# Altium schematic symbol library TACL105K016XTA.SchLib: 1 symbol
Pins are listed as number, name and electrical type; pins without a type are passive.

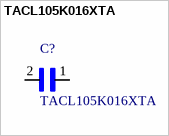
[diagram p0: symbol TACL105K016XTA]

## TACL105K016XTA
designator C?
Cap Tant Solid 1uF 16V L CASE 10% _1.6 X 0.85 X 0.85mm_ SMD 1608-10 7.5 Ohm 125Â°C Plastic T/R; MF: AVX; Digi-Key_Purchase_URL: https://www.digikey.com/product-detail/en/avx-corporation/TACL105K016XTA/478-4184-1-ND/1212747?utm_source=snapeda&utm_medium=aggregator&utm_campaign=symbol; Digi-Key_Part_Number: 478-4184-1-ND; Package: 0603 AVX; SnapEDA_Link: https://www.snapeda.com/parts/TACL105K016XTA/AVX%20/%20Kyocera/view-part/?ref=snap; MP: TACL105K016XTA; Value: *
footprint *CAPC1608X90
pins: 1, 2